# EAGLE library part FEATHER-HUZZAH32 (library Adafruit_Modules)
Adafruit Feather HUZZAH32 (ESP32 - 240 MHz)
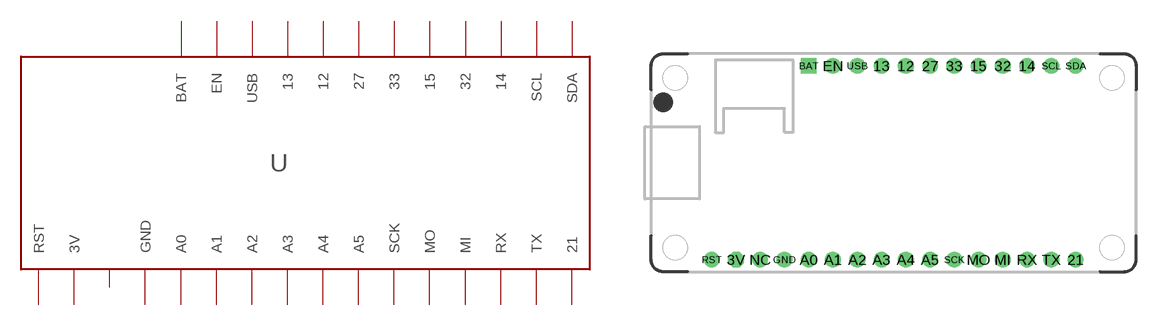
[diagram p17: symbol with the pads of FEATHER-HUZZAH32; footprint FEATHER-HUZZAH32]

Designator prefix -

## FEATHER-HUZZAH32 (ADAFRUIT: 3405)  [FEATHER-HUZZAH32]
3V  3V  out
12  12
13  13
14  14
15  15
21  21
27  27
32  32
33  33
A0  A0
A1  A1
A2  A2
A3  A3
A4  A4
A5  A5
BAT  BAT  pwr
EN  EN  pas
GND  GND  pwr
MI  MI
MO  MO
NC  NC  nc
RST  RST  pas
RX  RX
SCK  SCK
SCL  SCL
SDA  SDA
TX  TX
USB  USB  out

## Footprint FEATHER-HUZZAH32 (pad centres in mm)
Adafruit Feather Huzzah32
drill 1.1 octagon: 3V -16.51,-10.16
drill 1.1: 12 1.27,10.16; 13 -1.27,10.16; 14 13.97,10.16; 15 8.89,10.16; 21 19.05,-10.16; 27 3.81,10.16; 32 11.43,10.16; 33 6.35,10.16; A0 -8.89,-10.16; A1 -6.35,-10.16; A2 -3.81,-10.16; A3 -1.27,-10.16; A4 1.27,-10.16; A5 3.81,-10.16; EN -6.35,10.16; GND -11.43,-10.16; MI 11.43,-10.16; MO 8.89,-10.16; NC -13.97,-10.16; RST -19.05,-10.16; RX 13.97,-10.16; SCK 6.35,-10.16; SCL 16.51,10.16; SDA 19.05,10.16; TX 16.51,-10.16; USB -3.81,10.16
drill 1.1 square: BAT -8.89,10.16